# EAGLE library part NJM13700 (library ic-jrc)
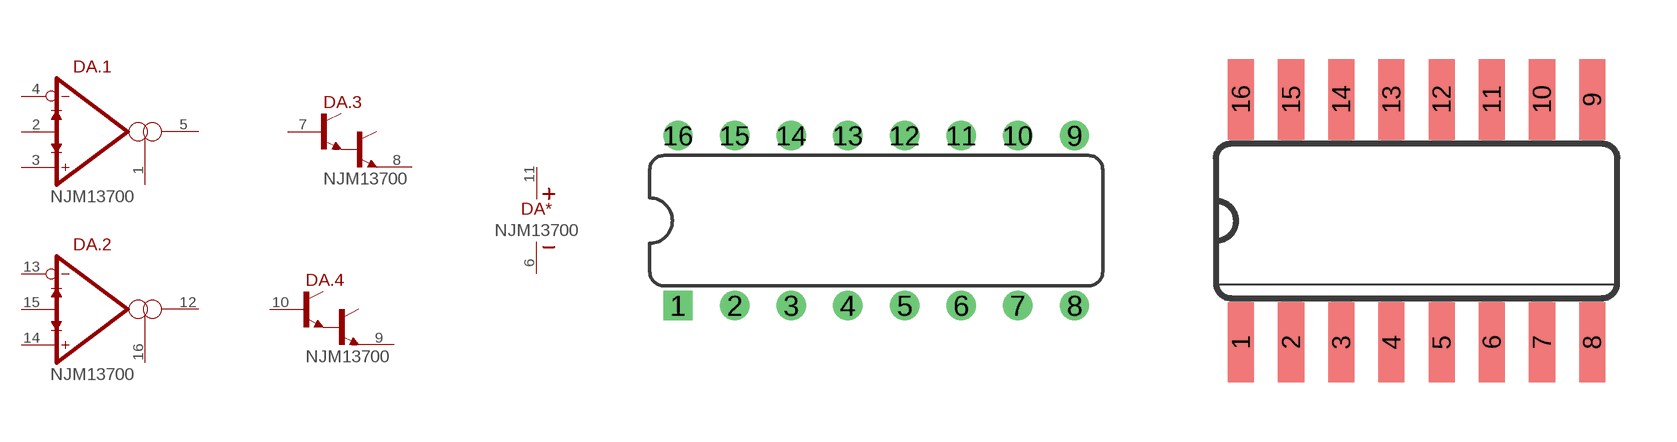
[diagram p6: symbol with the pads of DIP-16; footprints DIP-16, SO-16]

Designator prefix DA; gates .1=OTA .2=OTA .3=OTA-BUFFER .4=OTA-BUFFER *=SUPPLY

## NJM13700D  [DIP-16]
1  .1:AMP_BIAS  in
2  .1:DIODE_BIAS  in
3  .1:IN+  in
4  .1:IN-  in
5  .1:OUT  out
6  *:V-  pwr
7  .3:B  pas
8  .3:E  pas
9  .4:E  pas
10  .4:B  pas
11  *:V+  pwr
12  .2:OUT  out
13  .2:IN-  in
14  .2:IN+  in
15  .2:DIODE_BIAS  in
16  .2:AMP_BIAS  in

## NJM13700M  [SO-16]
Pads as for DIP-16

## Footprint DIP-16 (pad centres in mm)
Dual In Line Package
drill 0.813 square: 1 -8.89,-3.81
drill 0.813: 2 -6.35,-3.81; 3 -3.81,-3.81; 4 -1.27,-3.81; 5 1.27,-3.81; 6 3.81,-3.81; 7 6.35,-3.81; 8 8.89,-3.81; 9 8.89,3.81; 10 6.35,3.81; 11 3.81,3.81; 12 1.27,3.81; 13 -1.27,3.81; 14 -3.81,3.81; 15 -6.35,3.81; 16 -8.89,3.81

## Footprint SO-16 (pad centres in mm)
Small Outline package 150 mil
smd 0.66 x 2.032: 1 -4.445,-3.073; 2 -3.175,-3.073; 3 -1.905,-3.073; 4 -0.635,-3.073; 5 0.635,-3.073; 6 1.905,-3.073; 7 3.175,-3.073; 8 4.445,-3.073; 9 4.445,3.073; 10 3.175,3.073; 11 1.905,3.073; 12 0.635,3.073; 13 -0.635,3.073; 14 -1.905,3.073; 15 -3.175,3.073; 16 -4.445,3.073